# Altium integrated library ON Semi EMI Filters.IntLib: 88 symbols (part 3 of 3)
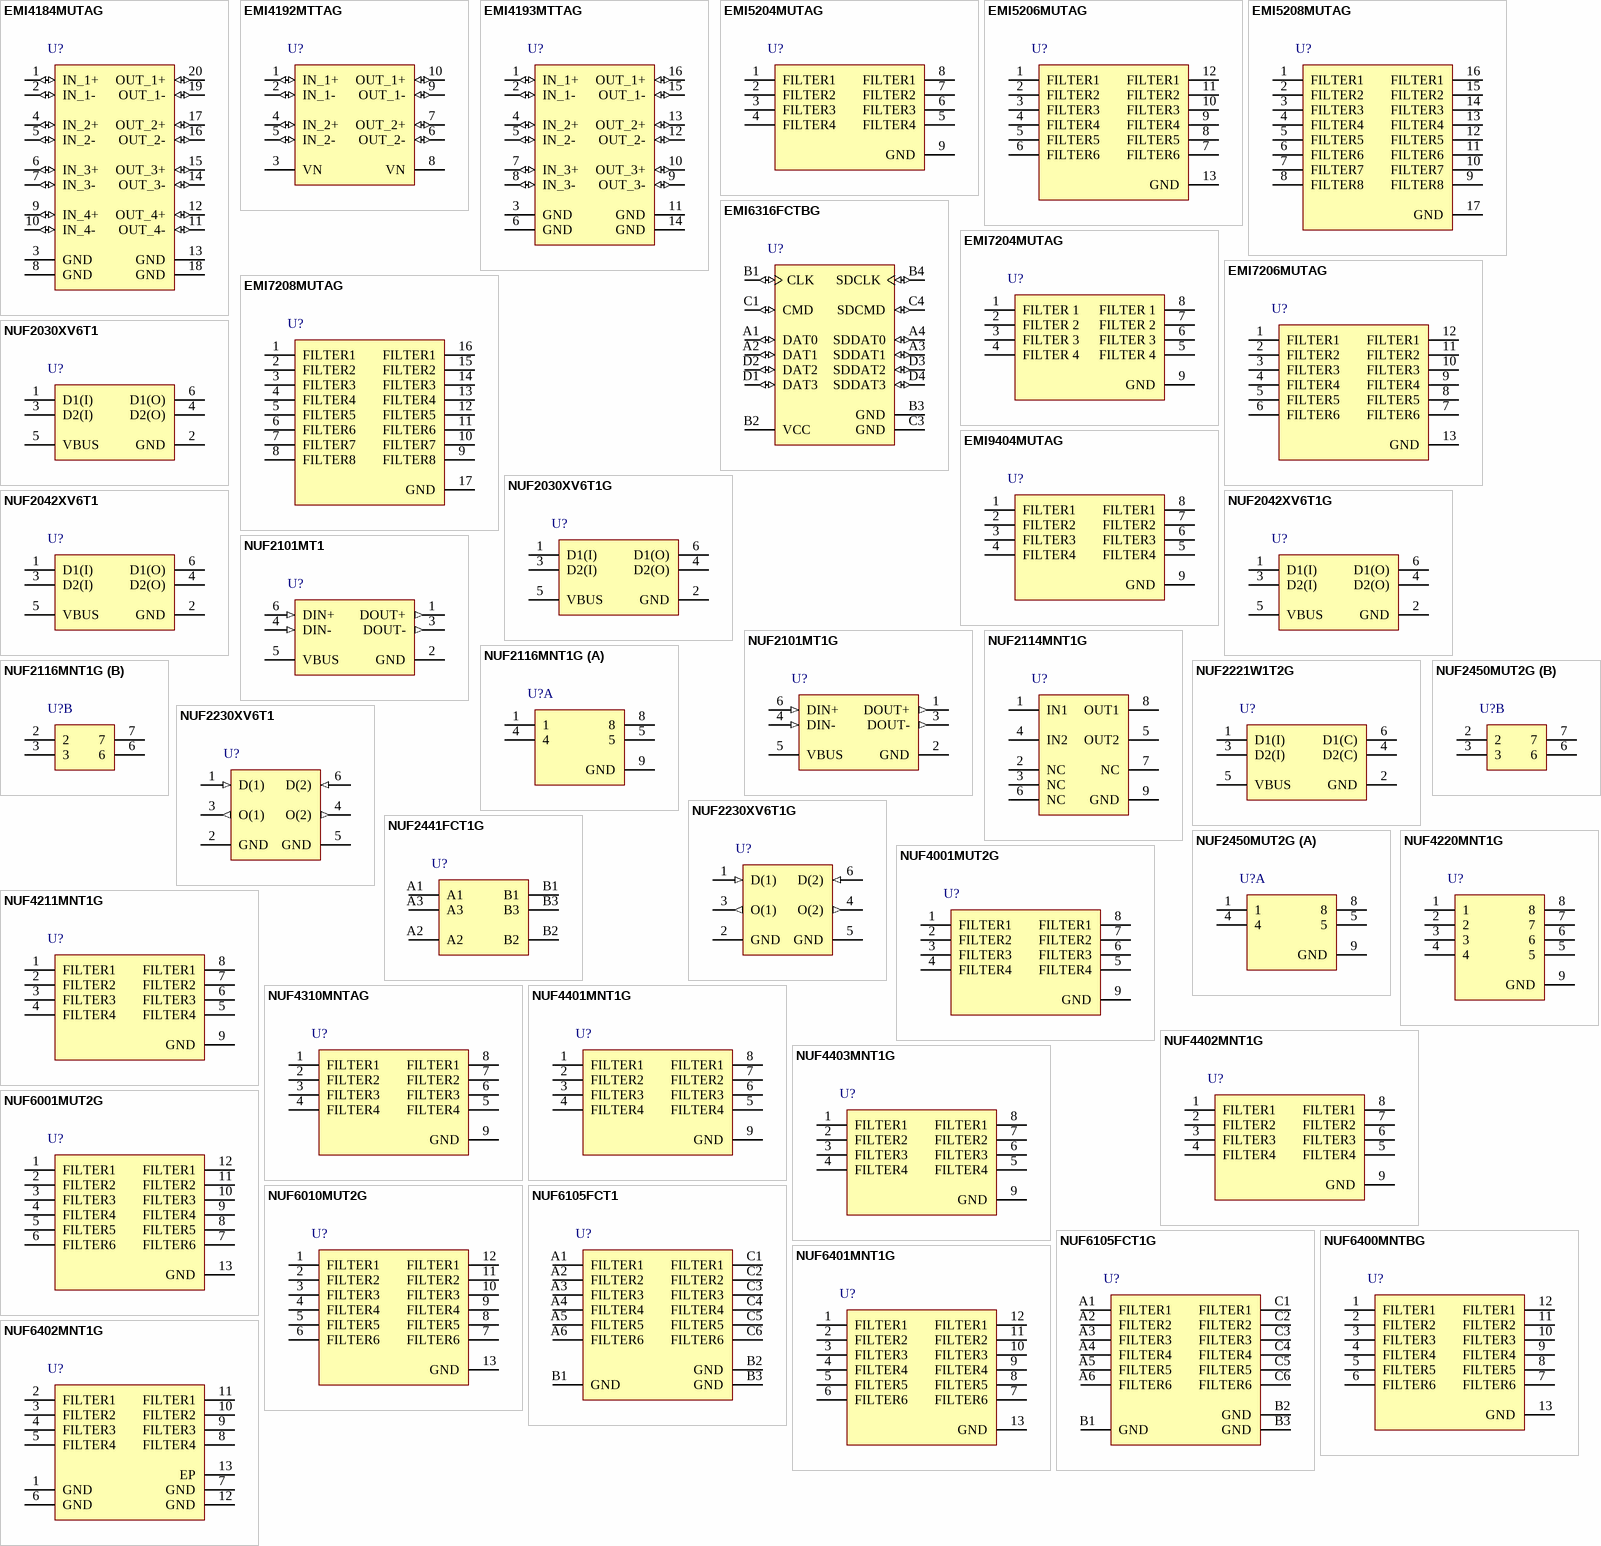
[diagram p4: symbols EMI4184MUTAG to NUF6402MNT1G]

## NUF6401MNT1G
designator U?
6-Channel EMI Filter with Integrated ESD Protection, -40 to 105 degC, 12-Pin DFN, Pb-Free, Tape and Reel; Manufacturer: On Semiconductor; PartNumber: NUF6401MNT1G; Number of Lines: 6; V(BR) Typ (V): 7; VRWM Max (V): 5; DatasheetVersion: Rev. 2; PackageVersion: Rev. J, 07/2008; PackageReference: DFN-12-506AD-01; PackageDescription: 12-Pin Small Outline No-Lead, Body 3 x 1.35 mm, Pitch 0.5 mm; Supplier 1: Digi-Key; Supplier Part Number 1: NUF6401MNT1GOSTR-ND; Supplier 2: Digi-Key; Supplier Part Number 2: NUF6401MNT1GOSCT-ND; Supplier 3: Digi-Key; Supplier Part Number 3: NUF6401MNT1GOSDKR-ND; Supplier 4: Mouser; Supplier Part Number 4: 863-NUF6401MNT1G; Packing: Tape and Reel; RoHS: Pb-Free; Mounting Technology: Surface Mount; ComponentLink1Description: Manufacturer URL; ComponentLink1URL: http://www.onsemi.com/; ComponentLink2Description: Datasheet; ComponentLink2URL: http://www.onsemi.com/pub_link/Collateral/NUF6401-D.PDF; ComponentLink3Description: Package Specification; ComponentLink3URL: http://www.onsemi.com/pub_link/Collateral/506AD.PDF
footprint ONSC-DFN-12-506AD-01_V (SON, 12-Leads, Body 3x1.35mm, Pitch 0.5mm, Thermal Pad 2.352x0.351mm)
pins: 1 FILTER1 "Filter + ESD Channel 1", 2 FILTER2 "Filter + ESD Channel 2", 3 FILTER3 "Filter + ESD Channel 3", 4 FILTER4 "Filter + ESD Channel 4", 5 FILTER5 "Filter + ESD Channel 5", 6 FILTER6 "Filter + ESD Channel 6", 7 FILTER6 "Filter + ESD Channel 6", 8 FILTER5 "Filter + ESD Channel 5", 9 FILTER4 "Filter + ESD Channel 4", 10 FILTER3 "Filter + ESD Channel 3", 11 FILTER2 "Filter + ESD Channel 2", 12 FILTER1 "Filter + ESD Channel 1", 13 GND (power) "Ground"

## NUF6402MNT1G
designator U?
4-Channel EMI Filter with Integrated ESD Protection, -40 to 85 degC, 12-Pin DFN, Pb-Free, Tape and Reel; Manufacturer: On Semiconductor; PartNumber: NUF6402MNT1G; Number of Lines: 4; V(BR) Typ (V): 7; VRWM Max (V): 5; DatasheetVersion: Rev. 5; PackageVersion: Rev. J, 07/2008; PackageReference: DFN-12-506AD-01; PackageDescription: 12-Pin Small Outline No-Lead, Body 3 x 1.35 mm, Pitch 0.5 mm; Supplier 1: Digi-Key; Supplier Part Number 1: NUF6402MNT1GOSTR-ND; Supplier 2: Digi-Key; Supplier Part Number 2: NUF6402MNT1GOSCT-ND; Supplier 3: Mouser; Supplier Part Number 3: 863-NUF6402MNT1G; Packing: Tape and Reel; RoHS: Pb-Free; Mounting Technology: Surface Mount; ComponentLink1Description: Manufacturer URL; ComponentLink1URL: http://www.onsemi.com/; ComponentLink2Description: Datasheet; ComponentLink2URL: http://www.onsemi.com/pub_link/Collateral/NUF6402MN-D.PDF; ComponentLink3Description: Package Specification; ComponentLink3URL: http://www.onsemi.com/pub_link/Collateral/506AD.PDF
footprint ONSC-DFN-12-506AD-01_V (SON, 12-Leads, Body 3x1.35mm, Pitch 0.5mm, Thermal Pad 2.352x0.351mm)
pins: 1 GND (power) "Zener and Ground", 2 FILTER1 "FILTER + ESD Channel 1", 3 FILTER2 "FILTER + ESD Channel 2", 4 FILTER3 "FILTER + ESD Channel 3", 5 FILTER4 "FILTER + ESD Channel 4", 6 GND (power) "Zener and Ground", 7 GND (power) "Zener and Ground", 8 FILTER4 "FILTER + ESD Channel 4", 9 FILTER3 "FILTER + ESD Channel 3", 10 FILTER2 "FILTER + ESD Channel 2", 11 FILTER1 "FILTER + ESD Channel 1", 12 GND (power) "Zener and Ground", 13 EP (power) "Ground"

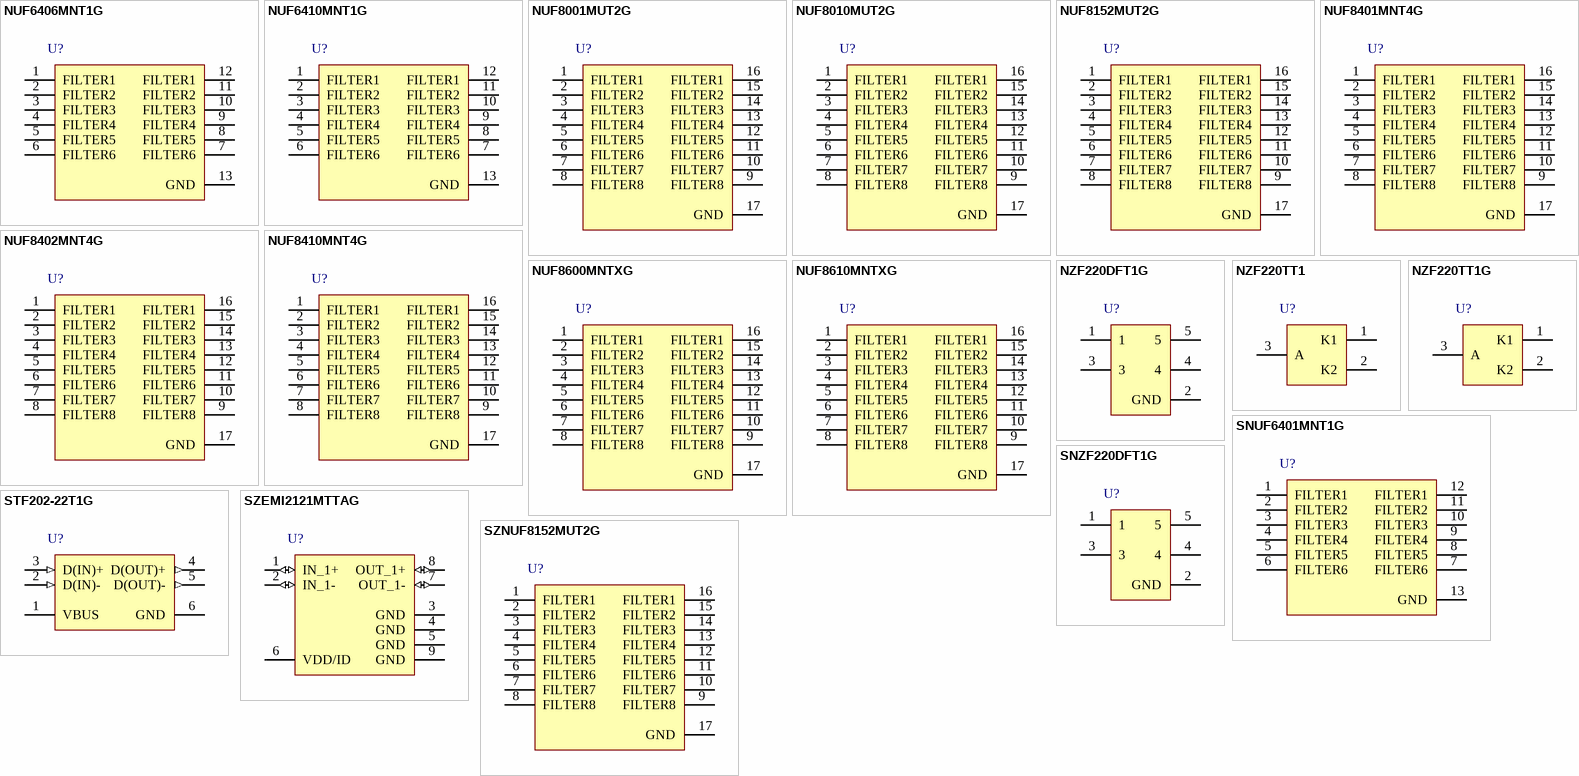
[diagram p2: symbols NUF6406MNT1G to SZNUF8152MUT2G]

## NUF6406MNT1G
designator U?
6-Channel EMI Filter with Integrated ESD Protection, -40 to 85 degC, 12-Pin DFN, Pb-Free, Tape and Reel; Manufacturer: On Semiconductor; PartNumber: NUF6406MNT1G; Number of Lines: 6; V(BR) Typ (V): 7; VRWM Max (V): 5; DatasheetVersion: Rev. 5; PackageVersion: Rev. J, 07/2008; PackageReference: DFN-12-506AD-01; PackageDescription: 12-Pin Small Outline No-Lead, Body 3 x 1.35 mm, Pitch 0.5 mm; Supplier 1: Digi-Key; Supplier Part Number 1: NUF6406MNT1GOSTR-ND; Supplier 2: Digi-Key; Supplier Part Number 2: NUF6406MNT1GOSCT-ND; Supplier 3: Mouser; Supplier Part Number 3: 863-NUF6406MNT1G; Packing: Tape and Reel; RoHS: Pb-Free; Mounting Technology: Surface Mount; ComponentLink1Description: Manufacturer URL; ComponentLink1URL: http://www.onsemi.com/; ComponentLink2Description: Datasheet; ComponentLink2URL: http://www.onsemi.com/pub_link/Collateral/NUF6406MN-D.PDF; ComponentLink3Description: Package Specification; ComponentLink3URL: http://www.onsemi.com/pub_link/Collateral/506AD.PDF
footprint ONSC-DFN-12-506AD-01_V (SON, 12-Leads, Body 3x1.35mm, Pitch 0.5mm, Thermal Pad 2.352x0.351mm)
pins: 1 FILTER1 "Filter + ESD Channel 1", 2 FILTER2 "Filter + ESD Channel 2", 3 FILTER3 "Filter + ESD Channel 3", 4 FILTER4 "Filter + ESD Channel 4", 5 FILTER5 "Filter + ESD Channel 5", 6 FILTER6 "Filter + ESD Channel 6", 7 FILTER6 "Filter + ESD Channel 6", 8 FILTER5 "Filter + ESD Channel 5", 9 FILTER4 "Filter + ESD Channel 4", 10 FILTER3 "Filter + ESD Channel 3", 11 FILTER2 "Filter + ESD Channel 2", 12 FILTER1 "Filter + ESD Channel 1", 13 GND (power) "Ground"

## NUF6410MNT1G
designator U?
6-Channel EMI Filter with Integrated ESD Protection, -40 to 85 degC, 12-Pin DFN, Pb-Free, Tape and Reel; Manufacturer: On Semiconductor; PartNumber: NUF6410MNT1G; Number of Lines: 6; V(BR) Typ (V): 7; VRWM Max (V): 5; DatasheetVersion: Rev. 5; PackageVersion: Rev. J, 07/2008; PackageReference: DFN-12-506AD-01; PackageDescription: 12-Pin Small Outline No-Lead, Body 3 x 1.35 mm, Pitch 0.5 mm; Supplier 1: Digi-Key; Supplier Part Number 1: NUF6410MNT1GOSTR-ND; Supplier 2: Digi-Key; Supplier Part Number 2: NUF6410MNT1GOSCT-ND; Supplier 3: Digi-Key; Supplier Part Number 3: NUF6410MNT1GOSDKR-ND; Supplier 4: Mouser; Supplier Part Number 4: 863-NUF6410MNT1G; Packing: Tape and Reel; RoHS: Pb-Free; Mounting Technology: Surface Mount; ComponentLink1Description: Manufacturer URL; ComponentLink1URL: http://www.onsemi.com/; ComponentLink2Description: Datasheet; ComponentLink2URL: http://www.onsemi.com/pub_link/Collateral/NUF6410MN-D.PDF; ComponentLink3Description: Package Specification; ComponentLink3URL: http://www.onsemi.com/pub_link/Collateral/506AD.PDF
footprint ONSC-DFN-12-506AD-01_V (SON, 12-Leads, Body 3x1.35mm, Pitch 0.5mm, Thermal Pad 2.352x0.351mm)
pins: 1 FILTER1 "Filter + ESD Channel 1", 2 FILTER2 "Filter + ESD Channel 2", 3 FILTER3 "Filter + ESD Channel 3", 4 FILTER4 "Filter + ESD Channel 4", 5 FILTER5 "Filter + ESD Channel 5", 6 FILTER6 "Filter + ESD Channel 6", 7 FILTER6 "Filter + ESD Channel 6", 8 FILTER5 "Filter + ESD Channel 5", 9 FILTER4 "Filter + ESD Channel 4", 10 FILTER3 "Filter + ESD Channel 3", 11 FILTER2 "Filter + ESD Channel 2", 12 FILTER1 "Filter + ESD Channel 1", 13 GND (power) "Ground"

## NUF8001MUT2G
designator U?
8-Channel EMI Filter with Integrated ESD Protection, -40 to 85 degC, 16-Pin UDFN, Pb-Free, Tape and Reel; Manufacturer: On Semiconductor; PartNumber: NUF8001MUT2G; Number of Lines: 8; V(BR) Typ (V): 7; VRWM Max (V): 5; DatasheetVersion: Rev. 3; PackageVersion: Rev. C, 10/2012; PackageReference: UDFN-16-517AF; PackageDescription: 16-Pin Small Outline No-Lead, Body 3.5 x 1.2 mm, Pitch 0.4 mm; Supplier 1: Digi-Key; Supplier Part Number 1: NUF8001MUT2G-ND; Supplier 2: Newark; Supplier Part Number 2: 27M2771; Supplier 3: Mouser; Supplier Part Number 3: 863-NUF8001MUT2G; Packing: Tape and Reel; RoHS: Pb-Free; Mounting Technology: Surface Mount; ComponentLink1Description: Manufacturer URL; ComponentLink1URL: http://www.onsemi.com/; ComponentLink2Description: Datasheet; ComponentLink2URL: http://www.onsemi.com/pub_link/Collateral/NUF8001MU-D.PDF; ComponentLink3Description: Package Specification; ComponentLink3URL: http://www.onsemi.com/pub_link/Collateral/517AF.PDF
footprint ONSC-UDFN-16-517AF_V (SON, 16-Leads, Body 3.5x1.2mm, Pitch 0.4mm, Thermal Pad 2.85x0.35mm)
pins: 1 FILTER1 "Filter + ESD Channel 1", 2 FILTER2 "Filter + ESD Channel 2", 3 FILTER3 "Filter + ESD Channel 3", 4 FILTER4 "Filter + ESD Channel 4", 5 FILTER5 "Filter + ESD Channel 5", 6 FILTER6 "Filter + ESD Channel 6", 7 FILTER7 "Filter + ESD Channel 7", 8 FILTER8 "Filter + ESD Channel 8", 9 FILTER8 "Filter + ESD Channel 8", 10 FILTER7 "Filter + ESD Channel 7", 11 FILTER6 "Filter + ESD Channel 6", 12 FILTER5 "Filter + ESD Channel 5", 13 FILTER4 "Filter + ESD Channel 4", 14 FILTER3 "Filter + ESD Channel 3", 15 FILTER2 "Filter + ESD Channel 2", 16 FILTER1 "Filter + ESD Channel 1", 17 GND (power) "Ground"

## NUF8010MUT2G
designator U?
8-Channel EMI Filter with Integrated ESD Protection, -40 to 85 degC, 16-Pin UDFN, Pb-Free, Tape and Reel; Manufacturer: On Semiconductor; PartNumber: NUF8010MUT2G; Number of Lines: 8; V(BR) Typ (V): 7; VRWM Max (V): 5; DatasheetVersion: Rev. 1; PackageVersion: Rev. C, 10/2012; PackageReference: UDFN-16-517AF; PackageDescription: 16-Pin Small Outline No-Lead, Body 3.5 x 1.2 mm, Pitch 0.4 mm; Supplier 1: Digi-Key; Supplier Part Number 1: NUF8010MUT2GOSTR-ND; Supplier 2: Digi-Key; Supplier Part Number 2: NUF8010MUT2GOSCT-ND; Supplier 3: Digi-Key; Supplier Part Number 3: NUF8010MUT2GOSDKR-ND; Supplier 4: Newark; Supplier Part Number 4: 75M5234; Supplier 5: Mouser; Supplier Part Number 5: 863-NUF8010MUT2G; Packing: Tape and Reel; RoHS: Pb-Free; Mounting Technology: Surface Mount; ComponentLink1Description: Manufacturer URL; ComponentLink1URL: http://www.onsemi.com/; ComponentLink2Description: Datasheet; ComponentLink2URL: http://www.onsemi.com/pub_link/Collateral/NUF8010MU-D.PDF; ComponentLink3Description: Package Specification; ComponentLink3URL: http://www.onsemi.com/pub_link/Collateral/517AF.PDF
footprint ONSC-UDFN-16-517AF_V (SON, 16-Leads, Body 3.5x1.2mm, Pitch 0.4mm, Thermal Pad 2.85x0.35mm)
pins: 1 FILTER1 "Filter + ESD Channel 1", 2 FILTER2 "Filter + ESD Channel 2", 3 FILTER3 "Filter + ESD Channel 3", 4 FILTER4 "Filter + ESD Channel 4", 5 FILTER5 "Filter + ESD Channel 5", 6 FILTER6 "Filter + ESD Channel 6", 7 FILTER7 "Filter + ESD Channel 7", 8 FILTER8 "Filter + ESD Channel 8", 9 FILTER8 "Filter + ESD Channel 8", 10 FILTER7 "Filter + ESD Channel 7", 11 FILTER6 "Filter + ESD Channel 6", 12 FILTER5 "Filter + ESD Channel 5", 13 FILTER4 "Filter + ESD Channel 4", 14 FILTER3 "Filter + ESD Channel 3", 15 FILTER2 "Filter + ESD Channel 2", 16 FILTER1 "Filter + ESD Channel 1", 17 GND (power) "Ground"

## NUF8152MUT2G
designator U?
8-Channel EMI Filter with Integrated ESD Protection, -40 to 85 degC, 16-Pin UDFN, Pb-Free, Tape and Reel; Manufacturer: On Semiconductor; PartNumber: NUF8152MUT2G; Number of Lines: 8; V(BR) Typ (V): 7; VRWM Max (V): 5; DatasheetVersion: Rev. 0; PackageVersion: Rev. C, 10/2012; PackageReference: UDFN-16-517AF; PackageDescription: 16-Pin Small Outline No-Lead, Body 3.5 x 1.2 mm, Pitch 0.4 mm; Supplier 1: Digi-Key; Supplier Part Number 1: NUF8152MUT2G-ND; Supplier 2: Mouser; Supplier Part Number 2: 863-NUF8152MUT2G; Packing: Tape and Reel; RoHS: Pb-Free; Mounting Technology: Surface Mount; ComponentLink1Description: Manufacturer URL; ComponentLink1URL: http://www.onsemi.com/; ComponentLink2Description: Datasheet; ComponentLink2URL: http://www.onsemi.com/pub_link/Collateral/NUF8152-D.PDF; ComponentLink3Description: Package Specification; ComponentLink3URL: http://www.onsemi.com/pub_link/Collateral/517AF.PDF
footprint ONSC-UDFN-16-517AF_V (SON, 16-Leads, Body 3.5x1.2mm, Pitch 0.4mm, Thermal Pad 2.85x0.35mm)
pins: 1 FILTER1 "Filter + ESD Channel 1", 2 FILTER2 "Filter + ESD Channel 2", 3 FILTER3 "Filter + ESD Channel 3", 4 FILTER4 "Filter + ESD Channel 4", 5 FILTER5 "Filter + ESD Channel 5", 6 FILTER6 "Filter + ESD Channel 6", 7 FILTER7 "Filter + ESD Channel 7", 8 FILTER8 "Filter + ESD Channel 8", 9 FILTER8 "Filter + ESD Channel 8", 10 FILTER7 "Filter + ESD Channel 7", 11 FILTER6 "Filter + ESD Channel 6", 12 FILTER5 "Filter + ESD Channel 5", 13 FILTER4 "Filter + ESD Channel 4", 14 FILTER3 "Filter + ESD Channel 3", 15 FILTER2 "Filter + ESD Channel 2", 16 FILTER1 "Filter + ESD Channel 1", 17 GND (power) "Ground"

## NUF8401MNT4G
designator U?
8-Channel EMI Filter with Integrated ESD Protection, -40 to 85 degC, 16-Pin DFN, Pb-Free, Tape and Reel; Manufacturer: On Semiconductor; PartNumber: NUF8401MNT4G; Number of Lines: 8; V(BR) Typ (V): 7; VRWM Max (V): 5; DatasheetVersion: Rev. 6; PackageVersion: Rev. D, 08/2013; PackageReference: DFN-16-506AC; PackageDescription: 16-Pin Small Outline No-Lead, Body 4 x 1.6 mm, Pitch 0.5 mm; Supplier 1: Digi-Key; Supplier Part Number 1: NUF8401MNT4GOSTR-ND; Supplier 2: Digi-Key; Supplier Part Number 2: NUF8401MNT4GOSCT-ND; Supplier 3: Digi-Key; Supplier Part Number 3: NUF8401MNT4GOSDKR-ND; Supplier 4: Newark; Supplier Part Number 4: 26K5138; Supplier 5: Mouser; Supplier Part Number 5: 863-NUF8401MNT4G; Packing: Tape and Reel; RoHS: Pb-Free; Mounting Technology: Surface Mount; ComponentLink1Description: Manufacturer URL; ComponentLink1URL: http://www.onsemi.com/; ComponentLink2Description: Datasheet; ComponentLink2URL: http://www.onsemi.com/pub_link/Collateral/NUF8401MN-D.PDF; ComponentLink3Description: Package Specification; ComponentLink3URL: http://www.onsemi.com/pub_link/Collateral/506AC.PDF
footprint ONSC-DFN-16-506AC_V (SON, 16-Leads, Body 4x1.6mm, Pitch 0.5mm, Thermal Pad 4.1x0.5mm)
pins: 1 FILTER1 "Filter + ESD Channel 1", 2 FILTER2 "Filter + ESD Channel 2", 3 FILTER3 "Filter + ESD Channel 3", 4 FILTER4 "Filter + ESD Channel 4", 5 FILTER5 "Filter + ESD Channel 5", 6 FILTER6 "Filter + ESD Channel 6", 7 FILTER7 "Filter + ESD Channel 7", 8 FILTER8 "Filter + ESD Channel 8", 9 FILTER8 "Filter + ESD Channel 8", 10 FILTER7 "Filter + ESD Channel 7", 11 FILTER6 "Filter + ESD Channel 6", 12 FILTER5 "Filter + ESD Channel 5", 13 FILTER4 "Filter + ESD Channel 4", 14 FILTER3 "Filter + ESD Channel 3", 15 FILTER2 "Filter + ESD Channel 2", 16 FILTER1 "Filter + ESD Channel 1", 17 GND (power) "Ground"

## NUF8402MNT4G
designator U?
8-Channel EMI Filter with Integrated ESD Protection, -40 to 85 degC, 16-Pin DFN, Pb-Free, Tape and Reel; Manufacturer: On Semiconductor; PartNumber: NUF8402MNT4G; Number of Lines: 8; V(BR) Typ (V): 7; VRWM Max (V): 5; DatasheetVersion: Rev. 7; PackageVersion: Rev. D, 08/2013; PackageReference: DFN-16-506AC; PackageDescription: 16-Pin Small Outline No-Lead, Body 4 x 1.6 mm, Pitch 0.5 mm; Supplier 1: Digi-Key; Supplier Part Number 1: NUF8402MNT4GOSTR-ND; Supplier 2: Digi-Key; Supplier Part Number 2: NUF8402MNT4GOSCT-ND; Supplier 3: Digi-Key; Supplier Part Number 3: NUF8402MNT4GOSDKR-ND; Supplier 4: Newark; Supplier Part Number 4: 26K5139; Supplier 5: Mouser; Supplier Part Number 5: 863-NUF8402MNT4G; Packing: Tape and Reel; RoHS: Pb-Free; Mounting Technology: Surface Mount; ComponentLink1Description: Manufacturer URL; ComponentLink1URL: http://www.onsemi.com/; ComponentLink2Description: Datasheet; ComponentLink2URL: http://www.onsemi.com/pub/Collateral/NUF8402MN-D.PDF; ComponentLink3Description: Package Specification; ComponentLink3URL: http://www.onsemi.com/pub_link/Collateral/506AC.PDF
footprint ONSC-DFN-16-506AC_V (SON, 16-Leads, Body 4x1.6mm, Pitch 0.5mm, Thermal Pad 4.1x0.5mm)
pins: 1 FILTER1 "Filter + ESD Channel 1", 2 FILTER2 "Filter + ESD Channel 2", 3 FILTER3 "Filter + ESD Channel 3", 4 FILTER4 "Filter + ESD Channel 4", 5 FILTER5 "Filter + ESD Channel 5", 6 FILTER6 "Filter + ESD Channel 6", 7 FILTER7 "Filter + ESD Channel 7", 8 FILTER8 "Filter + ESD Channel 8", 9 FILTER8 "Filter + ESD Channel 8", 10 FILTER7 "Filter + ESD Channel 7", 11 FILTER6 "Filter + ESD Channel 6", 12 FILTER5 "Filter + ESD Channel 5", 13 FILTER4 "Filter + ESD Channel 4", 14 FILTER3 "Filter + ESD Channel 3", 15 FILTER2 "Filter + ESD Channel 2", 16 FILTER1 "Filter + ESD Channel 1", 17 GND (power) "Ground"

## NUF8410MNT4G
designator U?
8-Channel EMI Filter with Integrated ESD Protection, -40 to 85 degC, 16-Pin DFN, Pb-Free, Tape and Reel; Manufacturer: On Semiconductor; PartNumber: NUF8410MNT4G; Number of Lines: 8; V(BR) Typ (V): 7; VRWM Max (V): 5; DatasheetVersion: Rev. 2; PackageVersion: Rev. D, 08/2013; PackageReference: DFN-16-506AC; PackageDescription: 16-Pin Small Outline No-Lead, Body 4 x 1.6 mm, Pitch 0.5 mm; Supplier 1: Digi-Key; Supplier Part Number 1: NUF8410MNT4GOSTR-ND; Supplier 2: Digi-Key; Supplier Part Number 2: NUF8410MNT4GOSCT-ND; Supplier 3: Mouser; Supplier Part Number 3: 863-NUF8410MNT4G; Packing: Tape and Reel; RoHS: Pb-Free; Mounting Technology: Surface Mount; ComponentLink1Description: Manufacturer URL; ComponentLink1URL: http://www.onsemi.com/; ComponentLink2Description: Datasheet; ComponentLink2URL: http://www.onsemi.com/pub_link/Collateral/NUF8410MN-D.PDF; ComponentLink3Description: Package Specification; ComponentLink3URL: http://www.onsemi.com/pub_link/Collateral/506AC.PDF
footprint ONSC-DFN-16-506AC_V (SON, 16-Leads, Body 4x1.6mm, Pitch 0.5mm, Thermal Pad 4.1x0.5mm)
pins: 1 FILTER1 "Filter + ESD Channel 1", 2 FILTER2 "Filter + ESD Channel 2", 3 FILTER3 "Filter + ESD Channel 3", 4 FILTER4 "Filter + ESD Channel 4", 5 FILTER5 "Filter + ESD Channel 5", 6 FILTER6 "Filter + ESD Channel 6", 7 FILTER7 "Filter + ESD Channel 7", 8 FILTER8 "Filter + ESD Channel 8", 9 FILTER8 "Filter + ESD Channel 8", 10 FILTER7 "Filter + ESD Channel 7", 11 FILTER6 "Filter + ESD Channel 6", 12 FILTER5 "Filter + ESD Channel 5", 13 FILTER4 "Filter + ESD Channel 4", 14 FILTER3 "Filter + ESD Channel 3", 15 FILTER2 "Filter + ESD Channel 2", 16 FILTER1 "Filter + ESD Channel 1", 17 GND (power) "Ground"

## NUF8600MNTXG
designator U?
8-Channel EMI Filter with Integrated ESD Protection, -40 to 85 degC, 16-Pin DFN, Pb-Free, Tape and Reel; Manufacturer: On Semiconductor; PartNumber: NUF8600MNTXG; Number of Lines: 8; V(BR) Typ (V): 7; VRWM Max (V): 5; DatasheetVersion: Rev. 2; PackageVersion: Rev. D, 08/2013; PackageReference: DFN-16-506AC; PackageDescription: 16-Pin Small Outline No-Lead, Body 4 x 1.6 mm, Pitch 0.5 mm; Supplier 1: Digi-Key; Supplier Part Number 1: NUF8600MNTXGOSTR-ND; Supplier 2: Digi-Key; Supplier Part Number 2: NUF8600MNTXGOSCT-ND; Supplier 3: Digi-Key; Supplier Part Number 3: NUF8600MNTXGOSDKR-ND; Supplier 4: Newark; Supplier Part Number 4: 01P0144; Supplier 5: Mouser; Supplier Part Number 5: 863-NUF8600MNTXG; Packing: Tape and Reel; RoHS: Pb-Free; Mounting Technology: Surface Mount; ComponentLink1Description: Manufacturer URL; ComponentLink1URL: http://www.onsemi.com/; ComponentLink2Description: Datasheet; ComponentLink2URL: http://www.onsemi.com/pub_link/Collateral/NUF8600MN-D.PDF; ComponentLink3Description: Package Specification; ComponentLink3URL: http://www.onsemi.com/pub_link/Collateral/506AC.PDF
footprint ONSC-DFN-16-506AC_V (SON, 16-Leads, Body 4x1.6mm, Pitch 0.5mm, Thermal Pad 4.1x0.5mm)
pins: 1 FILTER1 "Filter + ESD Channel 1", 2 FILTER2 "Filter + ESD Channel 2", 3 FILTER3 "Filter + ESD Channel 3", 4 FILTER4 "Filter + ESD Channel 4", 5 FILTER5 "Filter + ESD Channel 5", 6 FILTER6 "Filter + ESD Channel 6", 7 FILTER7 "Filter + ESD Channel 7", 8 FILTER8 "Filter + ESD Channel 8", 9 FILTER8 "Filter + ESD Channel 8", 10 FILTER7 "Filter + ESD Channel 7", 11 FILTER6 "Filter + ESD Channel 6", 12 FILTER5 "Filter + ESD Channel 5", 13 FILTER4 "Filter + ESD Channel 4", 14 FILTER3 "Filter + ESD Channel 3", 15 FILTER2 "Filter + ESD Channel 2", 16 FILTER1 "Filter + ESD Channel 1", 17 GND (power) "Ground"

## NUF8610MNTXG
designator U?
8-Channel EMI Filter with Integrated ESD Protection, -40 to 85 degC, 16-Pin DFN, Pb-Free, Tape and Reel; Manufacturer: On Semiconductor; PartNumber: NUF8610MNTXG; Number of Lines: 8; V(BR) Typ (V): 7; VRWM Max (V): 5; DatasheetVersion: Rev. 1; PackageVersion: Rev. D, 08/2013; PackageReference: DFN-16-506AC; PackageDescription: 16-Pin Small Outline No-Lead, Body 4 x 1.6 mm, Pitch 0.5 mm; Supplier 1: Digi-Key; Supplier Part Number 1: NUF8610MNTXGOSTR-ND; Supplier 2: Digi-Key; Supplier Part Number 2: NUF8610MNTXGOSCT-ND; Supplier 3: Digi-Key; Supplier Part Number 3: NUF8610MNTXGOSDKR-ND; Supplier 4: Newark; Supplier Part Number 4: 01P0145; Supplier 5: Mouser; Supplier Part Number 5: 863-NUF8610MNTXG; Packing: Tape and Reel; RoHS: Pb-Free; Mounting Technology: Surface Mount; ComponentLink1Description: Manufacturer URL; ComponentLink1URL: http://www.onsemi.com/; ComponentLink2Description: Datasheet; ComponentLink2URL: http://www.onsemi.com/pub_link/Collateral/NUF8610-D.PDF; ComponentLink3Description: Package Specification; ComponentLink3URL: http://www.onsemi.com/pub_link/Collateral/506AC.PDF
footprint ONSC-DFN-16-506AC_V (SON, 16-Leads, Body 4x1.6mm, Pitch 0.5mm, Thermal Pad 4.1x0.5mm)
pins: 1 FILTER1 "Filter + ESD Channel 1", 2 FILTER2 "Filter + ESD Channel 2", 3 FILTER3 "Filter + ESD Channel 3", 4 FILTER4 "Filter + ESD Channel 4", 5 FILTER5 "Filter + ESD Channel 5", 6 FILTER6 "Filter + ESD Channel 6", 7 FILTER7 "Filter + ESD Channel 7", 8 FILTER8 "Filter + ESD Channel 8", 9 FILTER8 "Filter + ESD Channel 8", 10 FILTER7 "Filter + ESD Channel 7", 11 FILTER6 "Filter + ESD Channel 6", 12 FILTER5 "Filter + ESD Channel 5", 13 FILTER4 "Filter + ESD Channel 4", 14 FILTER3 "Filter + ESD Channel 3", 15 FILTER2 "Filter + ESD Channel 2", 16 FILTER1 "Filter + ESD Channel 1", 17 GND (power) "Ground"

## NZF220DFT1G
designator U?
EMI Filter with ESD Protection, 5-Pin SC70, Pb-Free, Tape and Reel; Manufacturer: On Semiconductor; PartNumber: NZF220DFT1G; Number of Lines: 2; DatasheetVersion: Rev. 9; PackageVersion: Rev. L, 01/2013; PackageReference: SC70-5-419A-02; PackageDescription: 5-Pin Small Outline Transistor, Body 2 x 1.25 mm, Pitch 0.65 mm; Supplier 1: Digi-Key; Supplier Part Number 1: NZF220DFT1GOSTR-ND; Supplier 2: Digi-Key; Supplier Part Number 2: NZF220DFT1GOSCT-ND; Supplier 3: Digi-Key; Supplier Part Number 3: NZF220DFT1GOSDKR-ND; Supplier 4: Newark; Supplier Part Number 4: 98H0968; Supplier 5: Mouser; Supplier Part Number 5: 863-NZF220DFT1G; Packing: Tape and Reel; RoHS: Pb-Free; Mounting Technology: Surface Mount; ComponentLink1Description: Manufacturer URL; ComponentLink1URL: http://www.onsemi.com/; ComponentLink2Description: Datasheet; ComponentLink2URL: http://www.onsemi.com/pub_link/Collateral/NZF220DFT1-D.PDF; ComponentLink3Description: Package Specification; ComponentLink3URL: http://www.onsemi.cn/pub_link/Collateral/419A-02.PDF
footprint ONSC-SC70-5-419A-02_V (SOT23, 5-Leads, Body 2x1.25mm, Pitch 0.65mm)
pins: 1, 2 GND (power), 3, 4, 5

## NZF220TT1
designator U?
EMI Filter with ESD Protection, 3-Pin SC75, Tape and Reel; Manufacturer: On Semiconductor; PartNumber: NZF220TT1; Number of Lines: 1; DatasheetVersion: Rev. 3; PackageVersion: Rev. F, 07/2005; PackageReference: SC-75-3-463-01; PackageDescription: 3-Pin Small Outline Transistor, Body 1.6 x 0.8 mm, Pitch 0.5 mm; Supplier 1: Digi-Key; Supplier Part Number 1: NZF220TT1OSTR-ND; Supplier 2: Digi-Key; Supplier Part Number 2: NZF220TT1OSCT-ND; Supplier 3: Mouser; Supplier Part Number 3: 863-NZF220TT1; Packing: Tape and Reel; Mounting Technology: Surface Mount; ComponentLink1Description: Manufacturer URL; ComponentLink1URL: http://www.onsemi.com/; ComponentLink2Description: Datasheet; ComponentLink2URL: http://www.onsemi.com/pub_link/Collateral/NZF220TT1-D.PDF; ComponentLink3Description: Package Specification; ComponentLink3URL: http://www.onsemi.com/pub_link/Collateral/463-01.PDF
footprint ONSC-SC-75-3-463-01_V (SOT23, 3-Leads, Body 1.6x0.8mm, Pitch 0.5mm)
pins: 1 K1, 2 K2, 3 A

## NZF220TT1G
designator U?
EMI Filter with ESD Protection, 3-Pin SC75, Pb-Free, Tape and Reel; Manufacturer: On Semiconductor; PartNumber: NZF220TT1G; Number of Lines: 1; DatasheetVersion: Rev. 3; PackageVersion: Rev. F, 07/2005; PackageReference: SC-75-3-463-01; PackageDescription: 3-Pin Small Outline Transistor, Body 1.6 x 0.8 mm, Pitch 0.5 mm; Supplier 1: Digi-Key; Supplier Part Number 1: NZF220TT1GOSTR-ND; Supplier 2: Digi-Key; Supplier Part Number 2: NZF220TT1GOSCT-ND; Supplier 3: Newark; Supplier Part Number 3: 26K5143; Supplier 4: Mouser; Supplier Part Number 4: 863-NZF220TT1G; Packing: Tape and Reel; RoHS: Pb-Free; Mounting Technology: Surface Mount; ComponentLink1Description: Manufacturer URL; ComponentLink1URL: http://www.onsemi.com/; ComponentLink2Description: Datasheet; ComponentLink2URL: http://www.onsemi.com/pub_link/Collateral/NZF220TT1-D.PDF; ComponentLink3Description: Package Specification; ComponentLink3URL: http://www.onsemi.com/pub_link/Collateral/463-01.PDF
footprint ONSC-SC-75-3-463-01_V (SOT23, 3-Leads, Body 1.6x0.8mm, Pitch 0.5mm)
pins: 1 K1, 2 K2, 3 A

## SNUF6401MNT1G
designator U?
6-Channel EMI Filter with Integrated ESD Protection, -40 to 105 degC, 12-Pin DFN, Pb-Free, Tape and Reel; Manufacturer: On Semiconductor; PartNumber: SNUF6401MNT1G; Number of Lines: 6; V(BR) Typ (V): 7; VRWM Max (V): 5; DatasheetVersion: Rev. 2; PackageVersion: Rev. J, 07/2008; PackageReference: DFN-12-506AD-01; PackageDescription: 12-Pin Small Outline No-Lead, Body 3 x 1.35 mm, Pitch 0.5 mm; Supplier 1: Digi-Key; Supplier Part Number 1: SNUF6401MNT1G-ND; Supplier 2: Mouser; Supplier Part Number 2: 863-SNUF6401MNT1G; Packing: Tape and Reel; RoHS: Pb-Free; Mounting Technology: Surface Mount; ComponentLink1Description: Manufacturer URL; ComponentLink1URL: http://www.onsemi.com/; ComponentLink2Description: Datasheet; ComponentLink2URL: http://www.onsemi.com/pub_link/Collateral/NUF6401-D.PDF; ComponentLink3Description: Package Specification; ComponentLink3URL: http://www.onsemi.com/pub_link/Collateral/506AD.PDF
footprint ONSC-DFN-12-506AD-01_V (SON, 12-Leads, Body 3x1.35mm, Pitch 0.5mm, Thermal Pad 2.352x0.351mm)
pins: 1 FILTER1 "Filter + ESD Channel 1", 2 FILTER2 "Filter + ESD Channel 2", 3 FILTER3 "Filter + ESD Channel 3", 4 FILTER4 "Filter + ESD Channel 4", 5 FILTER5 "Filter + ESD Channel 5", 6 FILTER6 "Filter + ESD Channel 6", 7 FILTER6 "Filter + ESD Channel 6", 8 FILTER5 "Filter + ESD Channel 5", 9 FILTER4 "Filter + ESD Channel 4", 10 FILTER3 "Filter + ESD Channel 3", 11 FILTER2 "Filter + ESD Channel 2", 12 FILTER1 "Filter + ESD Channel 1", 13 GND (power) "Ground"

## SNZF220DFT1G
designator U?
EMI Filter with ESD Protection, 5-Pin SC70, Pb-Free, Tape and Reel; Manufacturer: On Semiconductor; PartNumber: SNZF220DFT1G; Number of Lines: 2; DatasheetVersion: Rev. 9; PackageVersion: Rev. L, 01/2013; PackageReference: SC70-5-419A-02; PackageDescription: 5-Pin Small Outline Transistor, Body 2 x 1.25 mm, Pitch 0.65 mm; Supplier 1: Newark; Supplier Part Number 1: 97W6454; Supplier 2: Mouser; Supplier Part Number 2: 863-SNZF220DFT1G; Packing: Tape and Reel; RoHS: Pb-Free; Mounting Technology: Surface Mount; ComponentLink1Description: Manufacturer URL; ComponentLink1URL: http://www.onsemi.com/; ComponentLink2Description: Datasheet; ComponentLink2URL: http://www.onsemi.com/pub_link/Collateral/NZF220DFT1-D.PDF; ComponentLink3Description: Package Specification; ComponentLink3URL: http://www.onsemi.cn/pub_link/Collateral/419A-02.PDF
footprint ONSC-SC70-5-419A-02_V (SOT23, 5-Leads, Body 2x1.25mm, Pitch 0.65mm)
pins: 1, 2 GND (power), 3, 4, 5

## STF202-22T1G
designator U?
USB Filter with ESD Protection, -55 to 125 degC, 6-Pin TSOP, Pb-Free, Tape and Reel; Manufacturer: On Semiconductor; PartNumber: STF202-22T1G; C Typ (pF): 68; Number of Lines: 3; VRWM Max (V): 5.25; DatasheetVersion: Rev. 9; PackageVersion: Rev. V, 06/2012; PackageReference: TSOP-6-318G-02; PackageDescription: 6-Pin Small Outline Package, Body 3 x 1.5 mm, Pitch 0.95 mm; Supplier 1: Digi-Key; Supplier Part Number 1: STF202-22T1GOSTR-ND; Supplier 2: Digi-Key; Supplier Part Number 2: STF202-22T1GOSCT-ND; Supplier 3: Digi-Key; Supplier Part Number 3: STF202-22T1GOSDKR-ND; Supplier 4: Farnell; Supplier Part Number 4: 1651958RL; Supplier 5: Farnell; Supplier Part Number 5: 1651958; Supplier 6: Newark; Supplier Part Number 6: 45J2271; Supplier 7: Mouser; Supplier Part Number 7: 863-STF202-22T1G; Packing: Tape and Reel; RoHS: Pb-Free; Mounting Technology: Surface Mount; ComponentLink1Description: Manufacturer URL; ComponentLink1URL: http://www.onsemi.com/; ComponentLink2Description: Datasheet; ComponentLink2URL: http://www.onsemi.com/pub_link/Collateral/STF202-22T1-D.PDF; ComponentLink3Description: Package Specification; ComponentLink3URL: http://www.onsemi.com/pub_link/Collateral/318G-02.PDF
footprint ONSC-TSOP-6-318G-02_V (SOP, 6-Leads, Body 3x1.5mm, Pitch 0.95mm)
pins: 1 VBUS (power), 2 D(IN)- (in), 3 D(IN)+ (in), 4 D(OUT)+ (out), 5 D(OUT)- (out), 6 GND (power)

## SZEMI2121MTTAG
designator U?
Single Pair Common Mode Filter with ESD Protection, -40 to 85 degC, 8-Pin WDFN, Pb-Free, Tape and Reel; Manufacturer: On Semiconductor; PartNumber: SZEMI2121MTTAG; C Typ (pF): 0.8; Number of Lines: 3; VRWM Max (V): 5; DatasheetVersion: Rev. 2; PackageVersion: Rev. A, 12/2012; PackageReference: WDFN-8-511BN; PackageDescription: 8-Pin Small Outline No-Lead, Body 2.2 x 2 mm, Pitch 0.5 mm; Supplier 1: Newark; Supplier Part Number 1: 97W6497; Supplier 2: Mouser; Supplier Part Number 2: 863-SZEMI2121MTTAG; Packing: Tape and Reel; RoHS: Pb-Free; Mounting Technology: Surface Mount; ComponentLink1Description: Manufacturer URL; ComponentLink1URL: http://www.onsemi.com/; ComponentLink2Description: Datasheet; ComponentLink2URL: http://www.onsemi.com/pub_link/Collateral/EMI2121MT-D.PDF; ComponentLink3Description: Package Specification; ComponentLink3URL: http://www.onsemi.com/pub_link/Collateral/511BN.PDF
footprint ONSC-WDFN-8-511BN_V (SON, 8-Leads, Body 2.2x2mm, Pitch 0.5mm, Thermal Pad 0.8x0.54mm)
pins: 1 IN_1+ (io) "CMF Channel 1+ to Connector (External)", 2 IN_1- (io) "CMF Channel 1- to Connector (External)", 3 GND (power), 4 GND (power), 5 GND (power), 6 VDD/ID (power), 7 OUT_1- (io) "CMF Channel 1- to ASIC (Internal)", 8 OUT_1+ (io) "CMF Channel 1+ to ASIC (Internal)", 9 GND (power)

## SZNUF8152MUT2G
designator U?
8-Channel EMI Filter with Integrated ESD Protection, -40 to 85 degC, 16-Pin UDFN, Pb-Free, Tape and Reel; Manufacturer: On Semiconductor; PartNumber: SZNUF8152MUT2G; Number of Lines: 8; V(BR) Typ (V): 7; VRWM Max (V): 5; DatasheetVersion: Rev. 0; PackageVersion: Rev. C, 10/2012; PackageReference: UDFN-16-517AF; PackageDescription: 16-Pin Small Outline No-Lead, Body 3.5 x 1.2 mm, Pitch 0.4 mm; Supplier 1: Digi-Key; Supplier Part Number 1: SZNUF8152MUT2G-ND; Supplier 2: Mouser; Supplier Part Number 2: 863-SZNUF8152MUT2G; Packing: Tape and Reel; RoHS: Pb-Free; Mounting Technology: Surface Mount; ComponentLink1Description: Manufacturer URL; ComponentLink1URL: http://www.onsemi.com/; ComponentLink2Description: Datasheet; ComponentLink2URL: http://www.onsemi.com/pub_link/Collateral/NUF8152-D.PDF; ComponentLink3Description: Package Specification; ComponentLink3URL: http://www.onsemi.com/pub_link/Collateral/517AF.PDF
footprint ONSC-UDFN-16-517AF_V (SON, 16-Leads, Body 3.5x1.2mm, Pitch 0.4mm, Thermal Pad 2.85x0.35mm)
pins: 1 FILTER1 "Filter + ESD Channel 1", 2 FILTER2 "Filter + ESD Channel 2", 3 FILTER3 "Filter + ESD Channel 3", 4 FILTER4 "Filter + ESD Channel 4", 5 FILTER5 "Filter + ESD Channel 5", 6 FILTER6 "Filter + ESD Channel 6", 7 FILTER7 "Filter + ESD Channel 7", 8 FILTER8 "Filter + ESD Channel 8", 9 FILTER8 "Filter + ESD Channel 8", 10 FILTER7 "Filter + ESD Channel 7", 11 FILTER6 "Filter + ESD Channel 6", 12 FILTER5 "Filter + ESD Channel 5", 13 FILTER4 "Filter + ESD Channel 4", 14 FILTER3 "Filter + ESD Channel 3", 15 FILTER2 "Filter + ESD Channel 2", 16 FILTER1 "Filter + ESD Channel 1", 17 GND (power) "Ground"